# Altium schematic symbol library TC1240A.SchLib: 1 symbol
Pins are listed as number, name and electrical type; pins without a type are passive.

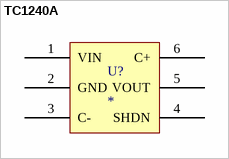
[diagram p0: symbol TC1240A]

## TC1240A
designator U?
TC1240A - Positive Doubling Charge Pumps with Shutdown; Manufacturer: Microchip; Vendor: Digi-Key; Part No.: TC1240A; Price Est.: $1.26
pins: 1 VIN, 2 GND, 3 C-, 4 SHDN, 5 VOUT, 6 C+